# EAGLE library part B200 (library FHD-Connectors)
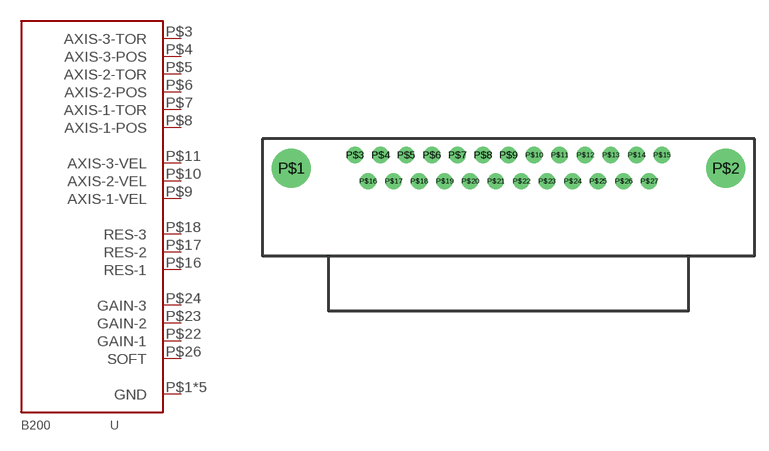
[diagram p5: symbol with the pads of PARALLEL; footprint PARALLEL]

Designator prefix -

## B200  [PARALLEL]
P$1  GND  out
P$2  GND  out
P$3  AXIS-3-TOR  out
P$4  AXIS-3-POS  out
P$5  AXIS-2-TOR  out
P$6  AXIS-2-POS  out
P$7  AXIS-1-TOR  out
P$8  AXIS-1-POS  out
P$9  AXIS-1-VEL  out
P$10  AXIS-2-VEL  out
P$11  AXIS-3-VEL  out
P$16  RES-1  out
P$17  RES-2  out
P$18  RES-3  out
P$19  GND  out
P$20  GND  out
P$21  GND  out
P$22  GAIN-1  out
P$23  GAIN-2  out
P$24  GAIN-3  out
P$26  SOFT  out

## Footprint PARALLEL (pad centres in mm)
drill 3.2: P$1 -23.52,0; P$2 23.52,0
drill 1 pad 1.778: P$3 -16.62,1.42; P$4 -13.85,1.42; P$5 -11.08,1.42; P$6 -8.31,1.42; P$7 -5.54,1.42; P$8 -2.77,1.42; P$9 0,1.42; P$10 2.77,1.42; P$11 5.54,1.42; P$12 8.31,1.42; P$13 11.08,1.42; P$14 13.85,1.42; P$15 16.62,1.42; P$16 -15.235,-1.42; P$17 -12.465,-1.42; P$18 -9.695,-1.42; P$19 -6.925,-1.42; P$20 -4.155,-1.42; P$21 -1.385,-1.42; P$22 1.385,-1.42; P$23 4.155,-1.42; P$24 6.925,-1.42; P$25 9.695,-1.42; P$26 12.465,-1.42; P$27 15.235,-1.42